# EAGLE library part LMZ12010 (library pie)
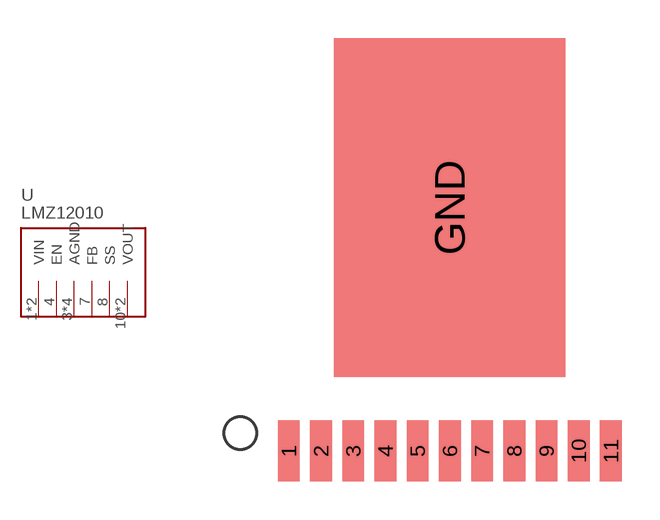
[diagram p26: symbol with the pads of LMZ12010; footprint LMZ12010]

Designator prefix U

## LMZ12010 (PIE-INT-REF-NUM: LMZ12010)  [LMZ12010]
1  VIN
2  VIN
3  AGND
4  EN
5  AGND
6  AGND
7  FB
8  SS
10  VOUT
11  VOUT
GND  AGND

## Footprint LMZ12010 (pad centres in mm)
smd 0.861 x 2.41: 1 -6.35,-9.601; 2 -5.08,-9.601; 3 -3.81,-9.601; 4 -2.54,-9.601; 5 -1.27,-9.601; 6 0,-9.601; 7 1.27,-9.601; 8 2.54,-9.601; 9 3.81,-9.601; 10 5.08,-9.601; 11 6.35,-9.601
smd 9.119 x 13.36: GND 0,0